# Altium schematic symbol library SCH - POWER - SWITCHMODE - TI TPS61261DRV.SchLib: 1 symbol
Pins are listed as number, name and electrical type; pins without a type are passive.

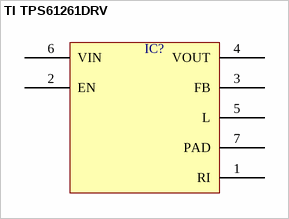
[diagram p0: symbol TI TPS61261DRV]

## TI TPS61261DRV
designator IC?  (value not drawn)
pins: 1 RI, 2 EN, 3 FB, 4 VOUT, 5 L, 6 VIN, 7 PAD